# Altium footprint library FYL0H103ZF.PcbLib: 1 footprints
Each footprint in its own frame and in the unit in brackets; x right, y up, seen from the top. Pads: shape width x height; smd on the part's side, far side on the other; paste and mask are expansions set on the pad; w line width, h text height; cw(c..) or ccw(c..) is an arc to the next point about the centre after c.
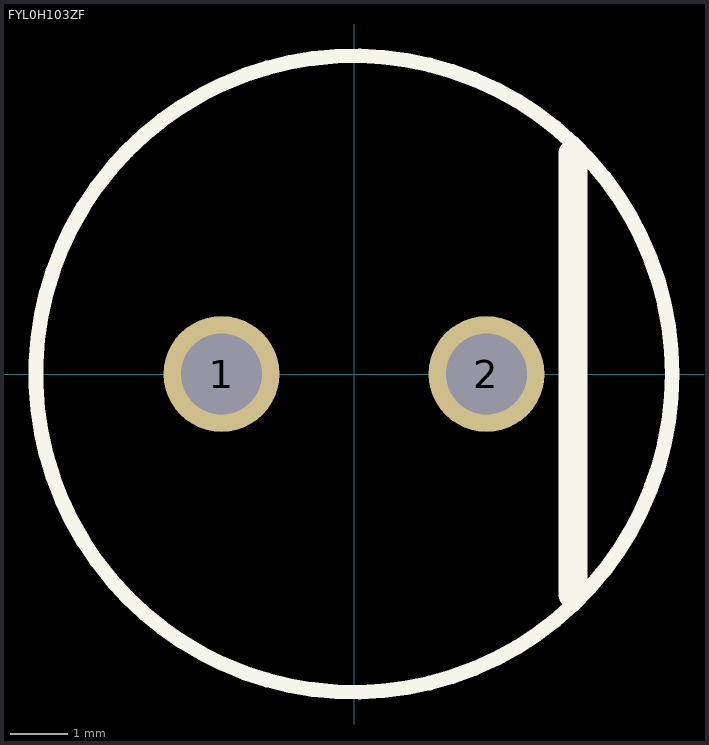
[diagram p0: the footprint, top view; thin cyan lines are the x and y axes]

## FYL0H103ZF [mm]
pads (2):
  round 2 hole 1.4: 1(-2.29,0) 2(2.29,0)
Top Overlay:
  circle w0.254: c0,0 r5.5
  lines w0.5: 3.785,-3.81 3.785,3.81
3D body "FYL0H103ZF.step": height 5.5, standoff -3, extent -5.725,-5.75 5.774,5.75